# EAGLE library part IC_TSSOP_WB8 (library solderlessPCB v164)
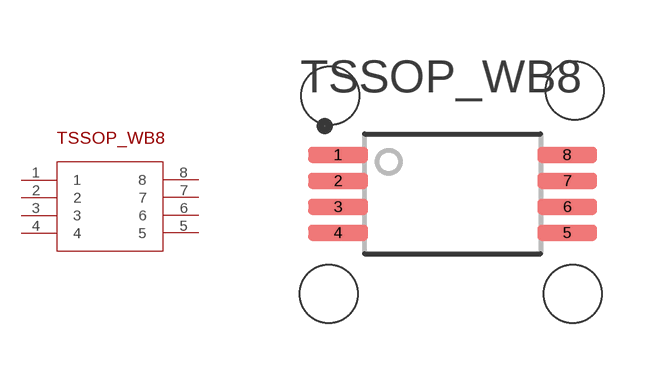
[diagram p1: symbol with the pads of TSSOP_WB8; footprint TSSOP_WB8]

Designator prefix -

## IC_TSSOP_WB8  [TSSOP_WB8]
1  1
2  2
3  3
4  4
5  5
6  6
7  7
8  8

## Footprint TSSOP_WB8 (pad centres in mm)
smd 1.5 x 0.41: 1 -2.865,0.975; 2 -2.865,0.325; 3 -2.865,-0.325; 4 -2.865,-0.975; 5 2.865,-0.975; 6 2.865,-0.325; 7 2.865,0.325; 8 2.865,0.975
hole 1.45 at -3.067,2.46
hole 1.45 at 3.054,2.587
hole 1.45 at -3.092,-2.5
hole 1.45 at 3.004,-2.5